# Altium schematic symbol library INA214BIDCKR.SchLib: 1 symbol
Pins are listed as number, name and electrical type; pins without a type are passive.

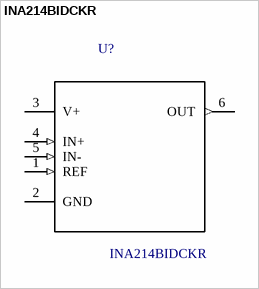
[diagram p0: symbol INA214BIDCKR]

## INA214BIDCKR
designator U?
26-V, Bi-Directional, Zero-Drift, High Accuracy, Low-/High-Side, Voltage Out Current Shunt Monitor 6-SC70 -40 to 125; MF: Texas Instruments; Price: None; SnapEDA_Link: https://www.snapeda.com/parts/INA214BIDCKR/Texas%20Instruments/view-part/?ref=snap; Package: SC-70 Texas Instruments; Availability: Unavailable; MP: INA214BIDCKR; Value: *
footprint SOT65P210X110-6N
pins: 1 REF (in), 2 GND, 3 V+ (power), 4 IN+ (in), 5 IN- (in), 6 OUT (out)